# Altium schematic symbol library Interface_LineDriver.SchLib: 16 symbols
Pins are listed as number, name and electrical type; pins without a type are passive.

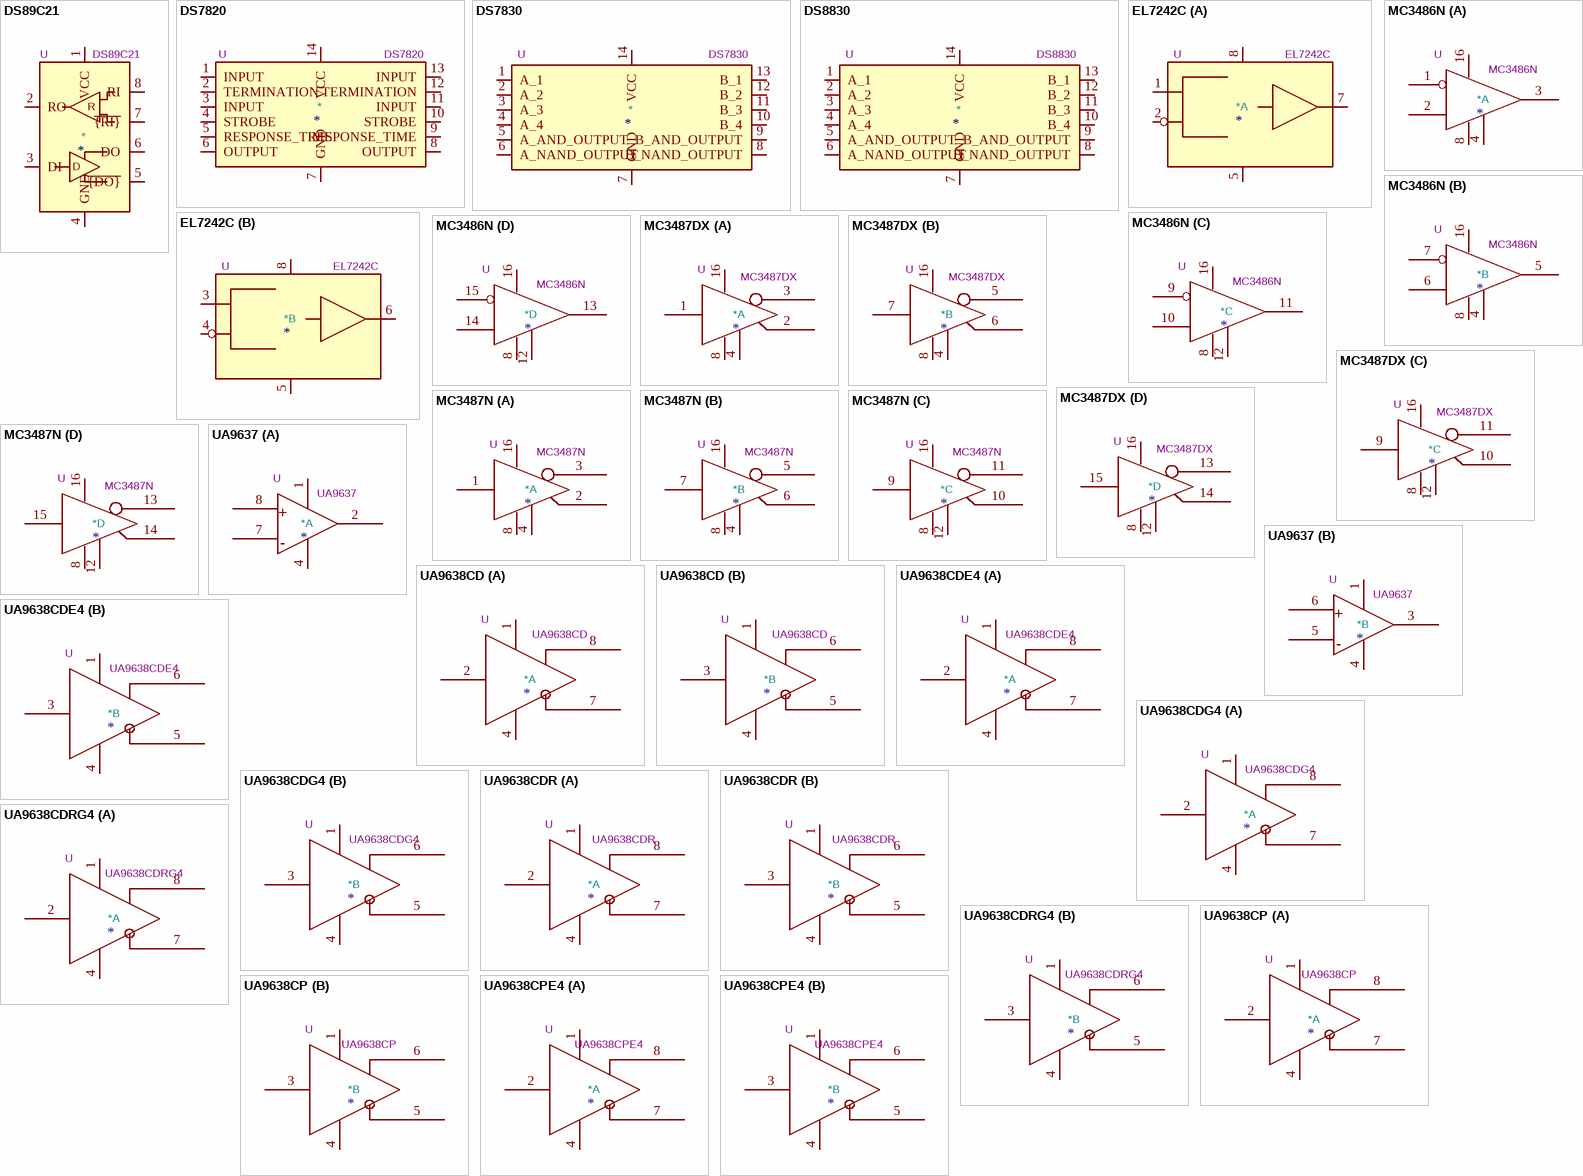
[diagram p0: symbols DS89C21 to UA9638CPE4]

## DS89C21
designator *  value DS89C21  Reference: U
ki_keywords: rs422 tranciever; ki_description: Differential CMOS Line Driver and Receiver Pair, SOIC-8; ki_fp_filters: SOIC*3.9x4.9mm*P1.27mm*; Footprint: Package_SO:SOIC-8_3.9x4.9mm_P1.27mm; Datasheet: http://www.ti.com/lit/ds/symlink/ds89c21.pdf
pins: 1 VCC, 2 RO, 3 DI, 4 GND, 5 ~{{DO}}, 6 DO, 7 ~{{RI}}, 8 RI
text: R; D

## DS7820
designator *  value DS7820  Reference: U
ki_keywords: Dual line receiver; ki_description: Dual line receiver, VDD +5V, DIP-14; ki_fp_filters: DIP*W7.62mm*; Footprint: Package_DIP:DIP-14_W7.62mm; Datasheet: http://pdf1.alldatasheet.com/datasheet-pdf/view/942427/NSC/DS7820.html
pins: 1 INPUT, 2 TERMINATION, 3 INPUT, 4 STROBE, 5 RESPONSE_TIME, 6 OUTPUT, 7 GND, 8 OUTPUT, 9 RESPONSE_TIME, 10 STROBE, 11 INPUT, 12 TERMINATION, 13 INPUT, 14 VCC

## DS7830
designator *  value DS7830  Reference: U
ki_keywords: Dual differential line driver; ki_description: Dual differential line driver and dual four-input NAND or dual four-input AND function, VDD +5V, DIP-14; ki_fp_filters: DIP*W7.62mm*; Footprint: Package_DIP:DIP-14_W7.62mm; Datasheet: http://pdf1.alldatasheet.com/datasheet-pdf/view/8473/NSC/DS7830J.html
pins: 1 A_1, 2 A_2, 3 A_3, 4 A_4, 5 A_AND_OUTPUT, 6 A_NAND_OUTPUT, 7 GND, 8 B_NAND_OUTPUT, 9 B_AND_OUTPUT, 10 B_4, 11 B_3, 12 B_2, 13 B_1, 14 VCC

## DS8830
designator *  value DS8830  Reference: U
ki_keywords: Dual differential line driver; ki_description: Dual differential line driver and dual four-input NAND or dual four-input AND function, VDD +5V, DIP-14; ki_fp_filters: DIP*W7.62mm*; Footprint: Package_DIP:DIP-14_W7.62mm; Datasheet: http://pdf1.alldatasheet.com/datasheet-pdf/view/8473/NSC/DS7830J.html
pins: 1 A_1, 2 A_2, 3 A_3, 4 A_4, 5 A_AND_OUTPUT, 6 A_NAND_OUTPUT, 7 GND, 8 B_NAND_OUTPUT, 9 B_AND_OUTPUT, 10 B_4, 11 B_3, 12 B_2, 13 B_1, 14 VCC

## EL7242C
designator *  value EL7242C  Reference: U
ki_keywords: Translateur TTL->VMOS. Double driver VMOS; ki_fp_filters: DIP*W7.62mm*; Footprint: Package_DIP:DIP-8_W7.62mm; Datasheet: http://pdf.datasheetcatalog.com/datasheet/elantec/EL7242CN.pdf; ki_description: Translateur TTL->VMOS. Double driver VMOS
part A pins: 1 IN1, 2 IN, 5 GND, 7 OUT, 8 V+
part B pins: 3 IN1, 4 IN, 5 GND, 6 OUT, 8 V+

## MC3486N
designator *  value MC3486N  Reference: U
ki_keywords: Quadruple differential line receiver; ki_description: Quadruple differential line receiver, SOIC-16; ki_fp_filters: DIP*W7.62mm*; Footprint: Package_DIP:DIP-14_W7.62mm; Datasheet: http://www.ti.com/lit/ds/symlink/mc3486.pdf
part A pins: 1 E-, 2 E+, 3 OUT, 4 ENABLE, 8 GND, 16 VCC
part B pins: 4 ENABLE, 5 OUT, 6 E+, 7 E-, 8 GND, 16 VCC
part C pins: 8 GND, 9 E-, 10 E+, 11 OUT, 12 ENABLE, 16 VCC
part D pins: 8 GND, 12 ENABLE, 13 OUT, 14 E+, 15 E-, 16 VCC

## MC3487DX
designator *  value MC3487DX  Reference: U
ki_keywords: Four independent differential line drivers; ki_description: Four independent differential line drivers, SOIC-16; ki_fp_filters: SOIC*3.9x9.9mm*P1.27mm*; Footprint: Package_SO:SOIC-16_3.9x9.9mm_P1.27mm; Datasheet: http://www.ti.com/lit/ds/symlink/mc3487.pdf
part A pins: 1 INPUT, 2 OUT+, 3 OUT-, 4 ENABLE, 8 GND, 16 VCC
part B pins: 4 ENABLE, 5 OUT-, 6 OUT+, 7 INPUT, 8 GND, 16 VCC
part C pins: 8 GND, 9 INPUT, 10 OUT+, 11 OUT-, 12 ENABLE, 16 VCC
part D pins: 8 GND, 12 ENABLE, 13 OUT-, 14 OUT+, 15 INPUT, 16 VCC

## MC3487N
designator *  value MC3487N  Reference: U
ki_keywords: Four independent differential line drivers; ki_description: Four independent differential line drivers, DIP-16; ki_fp_filters: DIP*W7.62mm*; Footprint: Package_DIP:DIP-16_W7.62mm; Datasheet: http://www.ti.com/lit/ds/symlink/mc3487.pdf
part A pins: 1 INPUT, 2 OUT+, 3 OUT-, 4 ENABLE, 8 GND, 16 VCC
part B pins: 4 ENABLE, 5 OUT-, 6 OUT+, 7 INPUT, 8 GND, 16 VCC
part C pins: 8 GND, 9 INPUT, 10 OUT+, 11 OUT-, 12 ENABLE, 16 VCC
part D pins: 8 GND, 12 ENABLE, 13 OUT-, 14 OUT+, 15 INPUT, 16 VCC

## UA9637
designator *  value UA9637  Reference: U
ki_keywords: Dual differential line receiver; ki_description: Dual differential line receiver, DIP-8; ki_fp_filters: DIP*W7.62mm*; Footprint: Package_DIP:DIP-8_W7.62mm; Datasheet: http://pdf.datasheetcatalog.com/datasheets2/28/284473_1.pdf
part A pins: 1 VCC, 2 OUT, 4 GND, 7 IN-, 8 IN+
part B pins: 1 VCC, 3 OUT, 4 GND, 5 IN-, 6 IN+
part A text: +; -
part B text: +; -

## UA9638CD
designator *  value UA9638CD  Reference: U
ki_keywords: Dual high-speed differential line driver; ki_description: Dual high-speed differential line driver, SOIC-8; ki_fp_filters: SOIC*3.9x4.9mm*P1.27mm*; Footprint: Package_SO:SOIC-8_3.9x4.9mm_P1.27mm; Datasheet: http://www.ti.com/lit/ds/symlink/ua9638.pdf
part A pins: 1 VCC, 2 IN, 4 GND, 7 OUTA, 8 OUTB
part B pins: 1 VCC, 3 IN, 4 GND, 5 OUTA, 6 OUTB

## UA9638CDE4
designator *  value UA9638CDE4  Reference: U
ki_keywords: Dual high-speed differential line driver; ki_description: Dual high-speed differential line driver, SOIC-8; ki_fp_filters: SOIC*3.9x4.9mm*P1.27mm*; Footprint: Package_SO:SOIC-8_3.9x4.9mm_P1.27mm; Datasheet: http://www.ti.com/lit/ds/symlink/ua9638.pdf
part A pins: 1 VCC, 2 IN, 4 GND, 7 OUTA, 8 OUTB
part B pins: 1 VCC, 3 IN, 4 GND, 5 OUTA, 6 OUTB

## UA9638CDG4
designator *  value UA9638CDG4  Reference: U
ki_keywords: Dual high-speed differential line driver; ki_description: Dual high-speed differential line driver, SOIC-8; ki_fp_filters: SOIC*3.9x4.9mm*P1.27mm*; Footprint: Package_SO:SOIC-8_3.9x4.9mm_P1.27mm; Datasheet: http://www.ti.com/lit/ds/symlink/ua9638.pdf
part A pins: 1 VCC, 2 IN, 4 GND, 7 OUTA, 8 OUTB
part B pins: 1 VCC, 3 IN, 4 GND, 5 OUTA, 6 OUTB

## UA9638CDR
designator *  value UA9638CDR  Reference: U
ki_keywords: Dual high-speed differential line driver; ki_description: Dual high-speed differential line driver, SOIC-8; ki_fp_filters: SOIC*3.9x4.9mm*P1.27mm*; Footprint: Package_SO:SOIC-8_3.9x4.9mm_P1.27mm; Datasheet: http://www.ti.com/lit/ds/symlink/ua9638.pdf
part A pins: 1 VCC, 2 IN, 4 GND, 7 OUTA, 8 OUTB
part B pins: 1 VCC, 3 IN, 4 GND, 5 OUTA, 6 OUTB

## UA9638CDRG4
designator *  value UA9638CDRG4  Reference: U
ki_keywords: Dual high-speed differential line driver; ki_description: Dual high-speed differential line driver, SOIC-8; ki_fp_filters: SOIC*3.9x4.9mm*P1.27mm*; Footprint: Package_SO:SOIC-8_3.9x4.9mm_P1.27mm; Datasheet: http://www.ti.com/lit/ds/symlink/ua9638.pdf
part A pins: 1 VCC, 2 IN, 4 GND, 7 OUTA, 8 OUTB
part B pins: 1 VCC, 3 IN, 4 GND, 5 OUTA, 6 OUTB

## UA9638CP
designator *  value UA9638CP  Reference: U
ki_keywords: Dual high-speed differential line driver; ki_description: Dual high-speed differential line driver, DIP-8; ki_fp_filters: DIP*W7.62mm*; Footprint: Package_DIP:DIP-8_W7.62mm; Datasheet: http://www.ti.com/lit/ds/symlink/ua9638.pdf
part A pins: 1 VCC, 2 IN, 4 GND, 7 OUTA, 8 OUTB
part B pins: 1 VCC, 3 IN, 4 GND, 5 OUTA, 6 OUTB

## UA9638CPE4
designator *  value UA9638CPE4  Reference: U
ki_keywords: Dual high-speed differential line driver; ki_description: Dual high-speed differential line driver, DIP-8; ki_fp_filters: DIP*W7.62mm*; Footprint: Package_DIP:DIP-8_W7.62mm; Datasheet: http://www.ti.com/lit/ds/symlink/ua9638.pdf
part A pins: 1 VCC, 2 IN, 4 GND, 7 OUTA, 8 OUTB
part B pins: 1 VCC, 3 IN, 4 GND, 5 OUTA, 6 OUTB